# Altium schematic symbol library Schlib1.SchLib: 37 symbols (part 1 of 2)
Pins are listed as number, name and electrical type; pins without a type are passive.

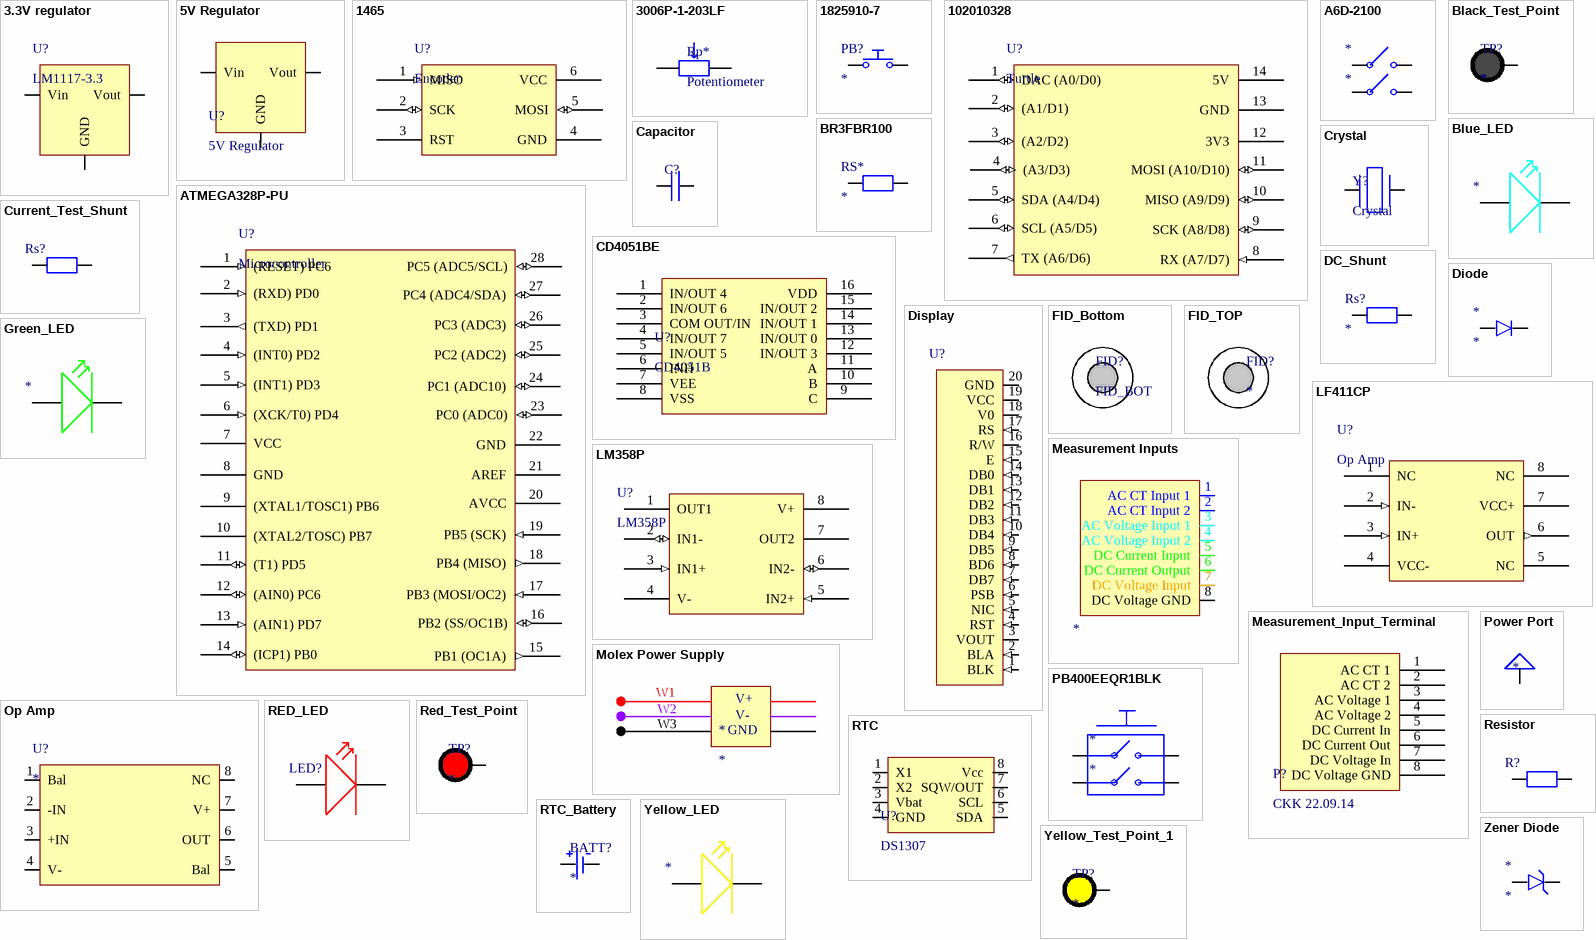
[diagram p0: symbols 3.3V regulator to Zener Diode]

## 3.3V regulator
designator U?, comment LM1117-3.3
footprint Voltge Regulator LM1117 (3.3)
pins: 1 Vin, 2 GND, 3 Vout

## 5V Regulator
designator U?
LM7805
footprint Voltge Regulator LM7805 (5)
pins: 1 Vin, 2 GND, 3 Vout

## 1465
designator U?, comment Encoder
Adafruit 6-Pin Avr Isp Breadboard Adapter Mini Kit |Adafruit 1465; Manufacturer: Adafruit Industries; Manufacturer Part Number: 1465; Supplier 1: DigiKey; RoHS: Compliant; Category: Uncategorized; Stock 1: 113; Pricing 1: 1=0.95 (USD); Schedule B: 8542900000, 8542900000|8542900000|8542900000|8542900000|8542900000; Supplier Part Number 1: 1528-1189-ND
footprint Encoder_No_Breakout
pins: 1 MISO (in), 2 SCK (io), 3 RST, 4 GND (power), 5 MOSI (io), 6 VCC (power)

## 3006P-1-203LF
designator Rp*, comment Potentiometer
Cermet trimmer potentiometer, 15 turns, 20 kΩ, 0.75 W, THT, lateral, 3006P-1-203LF; Manufacturer: Bourns; Lead Diameter: 510µm; Lead Length: 5.33mm; Max Power Dissipation: 750mW; Number of Turns: 15; Pitch: 2.5mm; Resistance: 20kΩ; Temperature Coefficient: 100ppm/°C; Tolerance: 10%; Voltage Rating: 400V; Supplier 1: DigiKey; Manufacturer Part Number: 3006P-1-203LF; RoHS: Compliant; Category: Variable Resistors and Potentiometers; Stock 1: 8166; Pricing 1: 1=1.78, 10=1.487, 25=1.3824, 50=1.3074, 100=1.2361, 250=1.14736, 500=1.0842, 1000=1.02432, 5000=0.89728 (USD); Color: Blue; Composition: Cermet; Contact Plating: Tin; Depth: 4.83mm; Height: 6.35mm; Length: 19.05mm; Lifecycle Status: Production; Max Operating Temperature: 125°C; Military Standard: Not; Min Operating Temperature: -55°C; Mount: PCB, Panel, Through Hole; Number of Terminals: 3; Power Dissipation: 750mW; Power Rating: 750mW; Radiation Hardening: No; REACH SVHC: No; Schedule B: 8533400080, 8533400080|8533400080|8533400080|8533400080|8533400080|8533400080|8533400080|8533400080|8533400080|8533400080|8533400080|8533400080|8533400080|8533400080|8533400080|8533400080|8533400080|8533400080|8533400080|8533400080|8533400080|8533400080|8533400080|85; Taper: Linear; Termination: Pin; Thickness: 5.59mm; Type: Potentiometer; Voltage Rating (DC): 400V; Weight: 1.133981g; Width: 4.83mm; Working Voltage: 400V; ComponentLink1URL: https://datasheet.octopart.com:443/3006P-1-203LF-Bourns-datasheet-179130280.pdf?src-supplier=IHS; ComponentLink1Description: https://datasheet.octopart.com:443/3006P-1-203LF-Bourns-datasheet-179130280.pdf?src-supplier=IHS; ComponentLink2URL: https://datasheet.octopart.com:443/3006P-1-203LF-Bourns-datasheet-1556.pdf?src-supplier=Master+Electronics; ComponentLink2Description: https://datasheet.octopart.com:443/3006P-1-203LF-Bourns-datasheet-1556.pdf?src-supplier=Master+Electronics; ComponentLink3URL: https://datasheet.octopart.com:443/3006P-1-203LF-Bourns-datasheet-8820935.pdf?src-supplier=Burklin+Elektronik; ComponentLink3Description: https://datasheet.octopart.com:443/3006P-1-203LF-Bourns-datasheet-8820935.pdf?src-supplier=Burklin+Elektronik; ComponentLink4URL: https://datasheet.octopart.com:443/3006P-1-203LF-Bourns-datasheet-177039006.pdf?src-supplier=Burklin+Elektronik; ComponentLink4Description: https://datasheet.octopart.com:443/3006P-1-203LF-Bourns-datasheet-177039006.pdf?src-supplier=Burklin+Elektronik; ComponentLink5URL: https://datasheet.octopart.com:443/3006P-1-203LF-Bourns-datasheet-25360148.pdf?src-supplier=Newark; ComponentLink5Description: https://datasheet.octopart.com:443/3006P-1-203LF-Bourns-datasheet-25360148.pdf?src-supplier=Newark; ComponentLink6URL: https://datasheet.octopart.com:443/3006P-1-203LF-Bourns-datasheet-147334278.pdf?src-supplier=Amar+Radio+Corporation; ComponentLink6Description: https://datasheet.octopart.com:443/3006P-1-203LF-Bourns-datasheet-147334278.pdf?src-supplier=Amar+Radio+Corporation; ComponentLink7URL: https://datasheet.octopart.com:443/3006P-1-203LF-Bourns-datasheet-37485062.pdf?src-supplier=RS+(Formerly+Allied+Electronics); ComponentLink7Description: https://datasheet.octopart.com:443/3006P-1-203LF-Bourns-datasheet-37485062.pdf?src-supplier=RS+(Formerly+Allied+Electronics); ComponentLink8URL: https://datasheet.octopart.com:443/3006P-1-203LF-Bourns-datasheet-30238.pdf?src-supplier=RS+(Formerly+Allied+Electronics); ComponentLink8Description: https://datasheet.octopart.com:443/3006P-1-203LF-Bourns-datasheet-30238.pdf?src-supplier=RS+(Formerly+Allied+Electronics); ComponentLink9URL: https://datasheet.octopart.com:443/3006P-1-203LF-Bourns-datasheet-14175265.pdf?src-supplier=iiiC; ComponentLink9Description: https://datasheet.octopart.com:443/3006P-1-203LF-Bourns-datasheet-14175265.pdf?src-supplier=iiiC; ComponentLink10URL: https://datasheet.octopart.com:443/3006P-1-203LF-Bourns-datasheet-8372838.pdf?src-supplier=Verical; ComponentLink10Description: https://datasheet.octopart.com:443/3006P-1-203LF-Bourns-datasheet-8372838.pdf?src-supplier=Verical; ComponentLink11URL: https://datasheet.octopart.com:443/3006P-1-203LF-Bourns-datasheet-10033440.pdf?src-supplier=Jameco; ComponentLink11Description: https://datasheet.octopart.com:443/3006P-1-203LF-Bourns-datasheet-10033440.pdf?src-supplier=Jameco; ComponentLink12URL: http://sigma.octopart.com:80/conflict_mineral_statement/Bourns-company-36.pdf?src-supplier=Compliance+Statements; ComponentLink12Description: http://sigma.octopart.com:80/conflict_mineral_statement/Bourns-company-36.pdf?src-supplier=Compliance+Statements; Supplier Part Number 1: 3006P-203LF-ND
footprint Potentiometer
pins: 1, 2

## 1825910-7
designator PB?
Keypad Switch, 1 Switches, SPST, Momentary, 0.05A, 24VDC, 2.548N, Solder Terminal, Panel Mount; Manufacturer: TE Connectivity; Manufacturer Part Number: 1825910-7; Manufacturer Lifecycle Status: ACTIVE; Actuator Length: 1.397mm; Actuator Material: PBT; Contact Current Rating: 50mA; Contact Resistance: 100mΩ; Electrical Life: 100kcycles; Illumination Type: Illuminated, Non-Illuminated; Max Voltage Rating (DC): 24V; Number of Positions: 1; Switch Function: Off-Mom; Switch Travel: 250µm; Supplier 1: DigiKey; RoHS: Compliant; Category: Pushbutton Switches; Stock 1: 35870; Pricing 1: 1=0.13, 10=0.118, 25=0.1112, 100=0.1001, 250=0.093, 750=0.08485, 1500=0.08009, 3000=0.07565, 5250=0.07234 (USD); China RoHS: Compliant; Color: Black, Red; Contact Material: Silver; Contact Plating: Silver; Current Rating: 50mA; Depth: 7.8mm; Export Control Classification Number (ECCN) Code: EAR99; ELV: Compliant; Height: 3.61mm; Housing Material: Nylon; Harmonized Tariff Schedule (HTS) Code: 8536.50.90.40; Introduction Date: 2008-01-30; Lead Free: Lead Free; Length: 5.99mm; Lifecycle Status: Production; Max Current Rating: 50mA; Max Operating Temperature: 85°C; Mechanical Life: 100kcycles; Min Operating Temperature: -35°C; Mount: Surface Mount, Through Hole; Operating Force: 2.548N; Orientation: Straight; Packaging: Bulk; Radiation Hardening: No; REACH SVHC: Yes; Schedule B: 8536509065, 8536509065|8536509065|8536509065|8536509065|8536509065|8536509065|8536509065|8536509065|8536509065|8536509065|8536509065|8536509065|8536509065|8536509065|8536509065|8536509065|8536509065|8536509065|8536509065|8536509065|8536509065|8536509065|8536509065|85; Termination: PC Pins, Solder; Throw Configuration: SPST; Type: Switch; Voltage Rating (DC): 24V; ComponentLink1URL: https://datasheet.octopart.com:443/1825910-7-TE-Connectivity-datasheet-179971976.pdf?src-supplier=IHS; ComponentLink1Description: https://datasheet.octopart.com:443/1825910-7-TE-Connectivity-datasheet-179971976.pdf?src-supplier=IHS; ComponentLink2URL: https://sigma.octopart.com:443/101748000/technical_drawing/TE-Connectivity-1825910-7.pdf?src-supplier=Sager+Electronics; ComponentLink2Description: https://sigma.octopart.com:443/101748000/technical_drawing/TE-Connectivity-1825910-7.pdf?src-supplier=Sager+Electronics; ComponentLink3URL: https://sigma.octopart.com:443/12291753/technical_drawing/TE-Connectivity-1825910-7.pdf?src-supplier=TE+Connectivity; ComponentLink3Description: https://sigma.octopart.com:443/12291753/technical_drawing/TE-Connectivity-1825910-7.pdf?src-supplier=TE+Connectivity; ComponentLink4URL: https://datasheet.octopart.com:443/1825910-7-TE-Connectivity-datasheet-10294628.pdf?src-supplier=Newark; ComponentLink4Description: https://datasheet.octopart.com:443/1825910-7-TE-Connectivity-datasheet-10294628.pdf?src-supplier=Newark; ComponentLink5URL: https://sigma.octopart.com:443/58177301/technical_drawing/TE-Connectivity-1825910-7.pdf?src-supplier=Farnell; ComponentLink5Description: https://sigma.octopart.com:443/58177301/technical_drawing/TE-Connectivity-1825910-7.pdf?src-supplier=Farnell; ComponentLink6URL: https://datasheet.octopart.com:443/1825910-7-TE-Connectivity---Alcoswitch-datasheet-33021037.pdf?src-supplier=Farnell; ComponentLink6Description: https://datasheet.octopart.com:443/1825910-7-TE-Connectivity---Alcoswitch-datasheet-33021037.pdf?src-supplier=Farnell; ComponentLink7URL: https://datasheet.octopart.com:443/1825910-7-TE-Connectivity---AMP-datasheet-23715109.pdf?src-supplier=Electro+Sonic; ComponentLink7Description: https://datasheet.octopart.com:443/1825910-7-TE-Connectivity---AMP-datasheet-23715109.pdf?src-supplier=Electro+Sonic; ComponentLink8URL: https://datasheet.octopart.com:443/1825910-7-TE-Connectivity-datasheet-145419879.pdf?src-supplier=RS+(Formerly+Allied+Electronics); ComponentLink8Description: https://datasheet.octopart.com:443/1825910-7-TE-Connectivity-datasheet-145419879.pdf?src-supplier=RS+(Formerly+Allied+Electronics); ComponentLink9URL: https://datasheet.octopart.com:443/1825910-7-TE-Connectivity---AMP-datasheet-189108451.pdf?src-supplier=Master+Electronics; ComponentLink9Description: https://datasheet.octopart.com:443/1825910-7-TE-Connectivity---AMP-datasheet-189108451.pdf?src-supplier=Master+Electronics; ComponentLink10URL: http://sigma.octopart.com:80/14574254/rohs_statement/TE-Connectivity-1825910-7.pdf?src-supplier=Compliance+Statements; ComponentLink10Description: http://sigma.octopart.com:80/14574254/rohs_statement/TE-Connectivity-1825910-7.pdf?src-supplier=Compliance+Statements; ComponentLink11URL: http://sigma.octopart.com:80/41598134/materials_sheet/TE-Connectivity-1825910-7.pdf?src-supplier=Compliance+Statements; ComponentLink11Description: http://sigma.octopart.com:80/41598134/materials_sheet/TE-Connectivity-1825910-7.pdf?src-supplier=Compliance+Statements; Supplier Part Number 1: 450-1804-ND
footprint Pushbutton
pins: 1, 2

## 102010328
designator U?, comment Turtle
SAMD21 Microcontroller Development Board 0.0327MHz/48MHzCPU 32KB RAM 256KB Flash; Manufacturer: Seeed Studio; Manufacturer Part Number: 102010328; Supplier 1: DigiKey; Category: DSPs - Digital Signal Processors; Stock 1: 4270; Pricing 1: 1=5.4 (USD); Schedule B: 8471490000; Supplier Part Number 1: 1597-102010328-ND
footprint Polygot-Turtle
pins: 1 DAC (A0/D0) (io), 2 (A1/D1) (io), 3 (A2/D2) (io), 4 (A3/D3) (io), 5 SDA (A4/D4) (io), 6 SCL (A5/D5) (io), 7 TX (A6/D6) (out), 8 RX (A7/D7) (in), 9 SCK (A8/D8) (io), 10 MISO (A9/D9) (io), 11 MOSI (A10/D10) (io), 12 3V3 (power), 13 GND (power), 14 5V (power)

## A6D-2100
designator *
Switch DIP ON OFF SPST 2 Flush Slide 0.1A 30VDC PC Pins 5000Cycle 2.54mm Thru-Hole Tube; Manufacturer: Omron; Manufacturer Part Number: A6D-2100; Actuator Length: 0m; Contact Current Rating: 100mA; Contact Resistance: 100mΩ; Current Rating: 30mA; Electrical Life: 2kcycles; Max Voltage Rating (DC): 30V; Mechanical Life: 5kcycles; Number of Circuits: 2; Sealable: IP64; Throw Configuration: DPST; Washable: Yes; Supplier 1: DigiKey; RoHS: Compliant; Category: DIP Switches; Pricing 1: 1=4.34, 10=3.625, 73=3.07205, 146=2.90377, 292=2.75, 511=2.63677, 1022=2.50991, 2555=2.36407 (USD); Ambient Temperature Range High: 70°C; Case/Package: DIP; Contact Plating: Gold; Depth: 7.62mm; Height: 3.4mm; Insulation Resistance: 100MΩ; Lead Free: Lead Free; Length: 6.6mm; Life (Cycles): 2kcycles; Lifecycle Status: Production; Max Current Rating: 30mA; Max Operating Temperature: 70°C; Min Operating Temperature: -20°C; Mount: PCB, Through Hole; Number of Poles: 2; Number of Positions: 2; Pitch: 2.54mm; Radiation Hardening: No; REACH SVHC: Yes; Terminal Pitch: 2.54mm; Termination: PC Pins; Voltage Rating (DC): 30V; ComponentLink1URL: https://datasheet.octopart.com:443/A6D-2100-Omron-datasheet-87796457.pdf?src-supplier=Master+Electronics; ComponentLink1Description: https://datasheet.octopart.com:443/A6D-2100-Omron-datasheet-87796457.pdf?src-supplier=Master+Electronics; ComponentLink2URL: https://datasheet.octopart.com:443/A6D-2100-Omron-datasheet-21210518.pdf?src-supplier=Newark; ComponentLink2Description: https://datasheet.octopart.com:443/A6D-2100-Omron-datasheet-21210518.pdf?src-supplier=Newark; ComponentLink3URL: https://datasheet.octopart.com:443/A6D-2100-Omron-datasheet-134074.pdf?src-supplier=Factory+Futures; ComponentLink3Description: https://datasheet.octopart.com:443/A6D-2100-Omron-datasheet-134074.pdf?src-supplier=Factory+Futures; ComponentLink4URL: https://datasheet.octopart.com:443/A6D-2100-Omron-datasheet-62106897.pdf?src-supplier=Electro+Sonic; ComponentLink4Description: https://datasheet.octopart.com:443/A6D-2100-Omron-datasheet-62106897.pdf?src-supplier=Electro+Sonic; ComponentLink5URL: https://datasheet.octopart.com:443/A6D-2100-Omron-datasheet-10025613.pdf?src-supplier=Farnell; ComponentLink5Description: https://datasheet.octopart.com:443/A6D-2100-Omron-datasheet-10025613.pdf?src-supplier=Farnell; ComponentLink6URL: https://datasheet.octopart.com:443/A6D-2100-Omron-datasheet-650778.pdf?src-supplier=Farnell; ComponentLink6Description: https://datasheet.octopart.com:443/A6D-2100-Omron-datasheet-650778.pdf?src-supplier=Farnell; ComponentLink7URL: https://datasheet.octopart.com:443/A6D-2100-Omron-datasheet-9667477.pdf?src-supplier=RS+(Formerly+Allied+Electronics); ComponentLink7Description: https://datasheet.octopart.com:443/A6D-2100-Omron-datasheet-9667477.pdf?src-supplier=RS+(Formerly+Allied+Electronics); ComponentLink8URL: https://datasheet.octopart.com:443/A6D-2100-Omron-datasheet-110376.pdf?src-supplier=TME; ComponentLink8Description: https://datasheet.octopart.com:443/A6D-2100-Omron-datasheet-110376.pdf?src-supplier=TME; Supplier Part Number 1: SW896-ND
pins: 1, 1, 2, 2

## ATMEGA328P-PU
designator U?, comment Microcontroller
Microchip - ATMEGA328P-PU - Microcontroller Mcu, 8 Bit, Atmega, 20MHZ, DIP-28; Manufacturer Lifecycle Status: REL; Core Architecture: AVR; Data Bus Width: 8b; Interface: 2-Wire, I2C, SPI, UART, USART; Max Supply Voltage: 5.5V; Memory Size: 32kB; Memory Type: FLASH; Min Supply Voltage: 1.8V; Number of ADC Channels: 6; Number of I2C Channels: 1; Number of I/Os: 23; Number of Timers/Counters: 3; Oscillator Type: Internal; Peripherals: Brown-out Detect/Reset, POR, PWM, WDT; RAM Size: 2kB; Watchdog Timer: Yes; Supplier 1: DigiKey; Manufacturer: Microchip; Manufacturer Part Number: ATMEGA328P-PU; RoHS: Compliant; Category: Microcontrollers; Stock 1: 49916; Pricing 1: 1=2.89, 25=2.65, 100=2.39 (USD); Projected EOL Date: 2039-11-04; Case/Package: PDIP; Contact Plating: Tin; Country of Assembly: Thailand; Country of Fabrication: United States of America; Country of Origin: Thailand; Export Control Classification Number (ECCN) Code: EAR99; Frequency: 20MHz; Height: 3.28mm; Harmonized Tariff Schedule (HTS) Code: 8542.31.0015; Lead Free: Lead Free; Length: 37.4mm; Lifecycle Status: Production; Max Frequency: 20MHz; Max Operating Temperature: 85°C; Min Operating Temperature: -40°C; Mount: Through Hole; Number of Pins: 28; Number of Programmable I/O: 23; Number of PWM Channels: 6; Number of SPI Channels: 1; Radiation Hardening: No; REACH SVHC: No; Schedule B: 8542310000, 8542310000|8542310000|8542310000|8542310000|8542310000; Width: 6.76mm; ComponentLink1URL: https://datasheet.octopart.com:443/ATMEGA328P-PU-Microchip-datasheet-147334532.pdf?src-supplier=Microchip; ComponentLink1Description: https://datasheet.octopart.com:443/ATMEGA328P-PU-Microchip-datasheet-147334532.pdf?src-supplier=Microchip; ComponentLink2URL: https://datasheet.octopart.com:443/ATMEGA328P-PU-Microchip-datasheet-148646239.pdf?src-supplier=Microchip; ComponentLink2Description: https://datasheet.octopart.com:443/ATMEGA328P-PU-Microchip-datasheet-148646239.pdf?src-supplier=Microchip; ComponentLink3URL: https://datasheet.octopart.com:443/ATMEGA328P-PU-Microchip-datasheet-68295846.pdf?src-supplier=SHENGYU+ELECTRONICS; ComponentLink3Description: https://datasheet.octopart.com:443/ATMEGA328P-PU-Microchip-datasheet-68295846.pdf?src-supplier=SHENGYU+ELECTRONICS; ComponentLink4URL: https://datasheet.octopart.com:443/ATMEGA328P-PU-Microchip-datasheet-14421303.pdf?src-supplier=Upverter; ComponentLink4Description: https://datasheet.octopart.com:443/ATMEGA328P-PU-Microchip-datasheet-14421303.pdf?src-supplier=Upverter; ComponentLink5URL: https://datasheet.octopart.com:443/ATMEGA328P-PU-Atmel-datasheet-34147914.pdf?src-supplier=Upverter; ComponentLink5Description: https://datasheet.octopart.com:443/ATMEGA328P-PU-Atmel-datasheet-34147914.pdf?src-supplier=Upverter; ComponentLink6URL: https://datasheet.octopart.com:443/ATMEGA328P-PU-Atmel-datasheet-14353408.pdf?src-supplier=Upverter; ComponentLink6Description: https://datasheet.octopart.com:443/ATMEGA328P-PU-Atmel-datasheet-14353408.pdf?src-supplier=Upverter; ComponentLink7URL: https://datasheet.octopart.com:443/ATMEGA328P-PU-Microchip-datasheet-133520744.pdf?src-supplier=LKR; ComponentLink7Description: https://datasheet.octopart.com:443/ATMEGA328P-PU-Microchip-datasheet-133520744.pdf?src-supplier=LKR; ComponentLink8URL: https://datasheet.octopart.com:443/ATMEGA328P-PU-Microchip-datasheet-62316222.pdf?src-supplier=element14+APAC; ComponentLink8Description: https://datasheet.octopart.com:443/ATMEGA328P-PU-Microchip-datasheet-62316222.pdf?src-supplier=element14+APAC; ComponentLink9URL: https://datasheet.octopart.com:443/ATMEGA328P-PU-Atmel-datasheet-13381135.pdf?src-supplier=element14+APAC; ComponentLink9Description: https://datasheet.octopart.com:443/ATMEGA328P-PU-Atmel-datasheet-13381135.pdf?src-supplier=element14+APAC; ComponentLink10URL: https://datasheet.octopart.com:443/ATMEGA328P-PU-Microchip-datasheet-154741723.pdf?src-supplier=Electro+Sonic; ComponentLink10Description: https://datasheet.octopart.com:443/ATMEGA328P-PU-Microchip-datasheet-154741723.pdf?src-supplier=Electro+Sonic; ComponentLink11URL: https://datasheet.octopart.com:443/ATMEGA328P-PU-Microchip-datasheet-100453898.pdf?src-supplier=Burklin+Elektronik; ComponentLink11Description: https://datasheet.octopart.com:443/ATMEGA328P-PU-Microchip-datasheet-100453898.pdf?src-supplier=Burklin+Elektronik; ComponentLink12URL: https://datasheet.octopart.com:443/ATMEGA328P-PU-Atmel-datasheet-30457899.pdf?src-supplier=Seeed+Studio; ComponentLink12Description: https://datasheet.octopart.com:443/ATMEGA328P-PU-Atmel-datasheet-30457899.pdf?src-supplier=Seeed+Studio; ComponentLink13URL: https://datasheet.octopart.com:443/ATMEGA328P-PU-Microchip-datasheet-10842036.pdf?src-supplier=SOS+electronic; ComponentLink13Description: https://datasheet.octopart.com:443/ATMEGA328P-PU-Microchip-datasheet-10842036.pdf?src-supplier=SOS+electronic; ComponentLink14URL: https://datasheet.octopart.com:443/ATMEGA328P-PU-Microchip-datasheet-8364063.pdf?src-supplier=Jameco; ComponentLink14Description: https://datasheet.octopart.com:443/ATMEGA328P-PU-Microchip-datasheet-8364063.pdf?src-supplier=Jameco; ComponentLink15URL: https://datasheet.octopart.com:443/ATMEGA328P-PU-Microchip-datasheet-154323124.pdf?src-supplier=Jameco; ComponentLink15Description: https://datasheet.octopart.com:443/ATMEGA328P-PU-Microchip-datasheet-154323124.pdf?src-supplier=Jameco; ComponentLink16URL: https://datasheet.octopart.com:443/ATMEGA328P-PU-Atmel-datasheet-10389530.pdf?src-supplier=Newark; ComponentLink16Description: https://datasheet.octopart.com:443/ATMEGA328P-PU-Atmel-datasheet-10389530.pdf?src-supplier=Newark; ComponentLink17URL: https://datasheet.octopart.com:443/ATMEGA328P-PU-Microchip-datasheet-65729177.pdf?src-supplier=TME; ComponentLink17Description: https://datasheet.octopart.com:443/ATMEGA328P-PU-Microchip-datasheet-65729177.pdf?src-supplier=TME; ComponentLink18URL: https://datasheet.octopart.com:443/ATMEGA328P-PU-Microchip-datasheet-101746195.pdf?src-supplier=Future+Electronics; ComponentLink18Description: https://datasheet.octopart.com:443/ATMEGA328P-PU-Microchip-datasheet-101746195.pdf?src-supplier=Future+Electronics; ComponentLink19URL: http://sigma.octopart.com:80/188450569/materials_sheet/Microchip-ATMEGA328P-PU.pdf?src-supplier=Compliance+Statements; ComponentLink19Description: http://sigma.octopart.com:80/188450569/materials_sheet/Microchip-ATMEGA328P-PU.pdf?src-supplier=Compliance+Statements; ComponentLink20URL: http://sigma.octopart.com:80/rohs_statement/Microchip-company-71.pdf?src-supplier=Compliance+Statements; ComponentLink20Description: http://sigma.octopart.com:80/rohs_statement/Microchip-company-71.pdf?src-supplier=Compliance+Statements; ComponentLink21URL: http://sigma.octopart.com:80/reach_statement/Microchip-company-70.pdf?src-supplier=Compliance+Statements; ComponentLink21Description: http://sigma.octopart.com:80/reach_statement/Microchip-company-70.pdf?src-supplier=Compliance+Statements; ComponentLink22URL: http://sigma.octopart.com:80/conflict_mineral_statement/Microchip-company-69.pdf?src-supplier=Compliance+Statements; ComponentLink22Description: http://sigma.octopart.com:80/conflict_mineral_statement/Microchip-company-69.pdf?src-supplier=Compliance+Statements; ComponentLink23URL: http://sigma.octopart.com:80/conflict_mineral_statement/Microchip-company-68.pdf?src-supplier=Compliance+Statements; ComponentLink23Description: http://sigma.octopart.com:80/conflict_mineral_statement/Microchip-company-68.pdf?src-supplier=Compliance+Statements; ComponentLink24URL: http://sigma.octopart.com:80/reach_statement/Atmel-company-6.pdf?src-supplier=Compliance+Statements; ComponentLink24Description: http://sigma.octopart.com:80/reach_statement/Atmel-company-6.pdf?src-supplier=Compliance+Statements; ComponentLink25URL: http://sigma.octopart.com:80/rohs_statement/Atmel-company-5.pdf?src-supplier=Compliance+Statements; ComponentLink25Description: http://sigma.octopart.com:80/rohs_statement/Atmel-company-5.pdf?src-supplier=Compliance+Statements; ComponentLink26URL: http://sigma.octopart.com:80/rohs_statement/Atmel-company-4.pdf?src-supplier=Compliance+Statements; ComponentLink26Description: http://sigma.octopart.com:80/rohs_statement/Atmel-company-4.pdf?src-supplier=Compliance+Statements; Supplier Part Number 1: ATMEGA328P-PU-ND
footprint ATMEGA832P\
pins: 1 (RESET) PC6 (in), 2 (RXD) PD0 (in), 3 (TXD) PD1 (out), 4 (INT0) PD2 (in), 5 (INT1) PD3 (in), 6 (XCK/T0) PD4 (in), 7 VCC (power), 8 GND (power), 9 (XTAL1/TOSC1) PB6, 10 (XTAL2/TOSC) PB7, 11 (T1) PD5 (io), 12 (AIN0) PC6 (io), 13 (AIN1) PD7 (in), 14 (ICP1) PB0 (io), 15 PB1 (OC1A) (out), 16 PB2 (SS/OC1B) (io), 17 PB3 (MOSI/OC2) (in), 18 PB4 (MISO) (out), 19 PB5 (SCK) (in), 20 AVCC (power), 21 AREF, 22 GND (power), 23 PC0 (ADC0) (io), 24 PC1 (ADC10) (io), 25 PC2 (ADC2) (io), 26 PC3 (ADC3) (io), 27 PC4 (ADC4/SDA) (io), 28 PC5 (ADC5/SCL) (io)

## Black_Test_Point
designator TP?
footprint TP
pins: 1

## Blue_LED
designator *  (value not drawn)
pins: 1, 2

## BR3FBR100
designator RS*
BR FIXED RESISTOR Radial Through Hole Resistor ±1% ±20ppm/C 100mOhm 3W; Manufacturer: Stackpole Electronics; Manufacturer Part Number: BR3FBR100; Lead Diameter: 1.02mm; Lead Length: 3.18mm; Resistance: 100mΩ; Temperature Coefficient: 20ppm/°C; Supplier 1: DigiKey; RoHS: Compliant; Category: Through-Hole Resistors; Stock 1: 835; Pricing 1: 1=1.26, 10=0.826, 25=0.708, 50=0.634, 100=0.571, 300=0.4898, 500=0.4586, 1000=0.42184, 5000=0.35642 (USD); Case/Package: Radial; Composition: Metal Element; Contact Plating: Tin; Country of Origin: Mexico; Export Control Classification Number (ECCN) Code: EAR99; Height: 20.32mm; Harmonized Tariff Schedule (HTS) Code: 8533.21.00.80; Introduction Date: 2011-10-27; Length: 15.3mm; Lifecycle Status: Production; Max Operating Temperature: 350°C; Max Power Dissipation: 3W; Min Operating Temperature: -65°C; Mount: Through Hole; Number of Terminals: 2; Number of Terminations: 2; Packaging: Bulk; Power Rating: 3W; REACH SVHC: Yes; Tolerance: 1%; ComponentLink1URL: https://datasheet.octopart.com:443/BR3FBR100-Stackpole-Electronics-datasheet-168158999.pdf?src-supplier=IHS; ComponentLink1Description: https://datasheet.octopart.com:443/BR3FBR100-Stackpole-Electronics-datasheet-168158999.pdf?src-supplier=IHS; ComponentLink2URL: https://datasheet.octopart.com:443/BR3FBR100-Stackpole-Electronics-datasheet-141158215.pdf?src-supplier=Master+Electronics; ComponentLink2Description: https://datasheet.octopart.com:443/BR3FBR100-Stackpole-Electronics-datasheet-141158215.pdf?src-supplier=Master+Electronics; ComponentLink3URL: https://datasheet.octopart.com:443/BR3FBR100-Stackpole-Electronics-datasheet-152735256.pdf?src-supplier=Future+Electronics; ComponentLink3Description: https://datasheet.octopart.com:443/BR3FBR100-Stackpole-Electronics-datasheet-152735256.pdf?src-supplier=Future+Electronics; ComponentLink4URL: http://sigma.octopart.com:80/141158211/reach_statement/Stackpole-Electronics-BR3FBR100.pdf?src-supplier=Compliance+Statements; ComponentLink4Description: http://sigma.octopart.com:80/141158211/reach_statement/Stackpole-Electronics-BR3FBR100.pdf?src-supplier=Compliance+Statements; ComponentLink5URL: http://sigma.octopart.com:80/141158212/rohs_statement/Stackpole-Electronics-BR3FBR100.pdf?src-supplier=Compliance+Statements; ComponentLink5Description: http://sigma.octopart.com:80/141158212/rohs_statement/Stackpole-Electronics-BR3FBR100.pdf?src-supplier=Compliance+Statements; Width: 1.651mm; Supplier Part Number 1: BR3FBR100-ND
pins: 1, 2

## Capacitor
designator C?  (value not drawn)
footprint Capacitor
pins: 1, 2

## CD4051BE
designator U?, comment CD4051B
CD4051B Series 20 V 100 nA CMOS Single 8-Channel Analog Multiplexer - PDIP-16; Manufacturer: Texas Instruments; Manufacturer Part Number: CD4051BE; Manufacturer Lifecycle Status: ACTIVE; Bandwidth: 20MHz; Drain to Source Resistance: 240Ω; Dual Supply Voltage: 3V; Logic Function: Demultiplexer, Multiplexer, Mux; Max Dual Supply Voltage: 9V; Max Supply Voltage: 20V; Min Dual Supply Voltage: 2.5V; Nominal Supply Current: 80nA; Number of Bits: 8; Number of Circuits: 1; Operating Supply Voltage: 18V; Polarity: Non-Inverting; Propagation Delay: 60ns; Supply Type: Dual, Single; Turn-Off Delay Time: 450ns; Turn-On Delay Time: 720ns; Supplier 1: DigiKey; RoHS: Compliant; Category: Analog Switches and Multiplexers; Stock 1: 4495; Pricing 1: 1=0.8, 10=0.568, 25=0.5108, 100=0.4479, 250=0.41796, 500=0.3999, 1000=0.38504, 2500=0.36936, 5000=0.35991 (USD); Case/Package: PDIP; Contact Plating: Tin; Height: 5.08mm; Lead Free: Lead Free; Length: 19.3mm; Lifecycle Status: Production; Max Operating Temperature: 125°C; Min Operating Temperature: -55°C; Min Supply Voltage: 3V; Min Supply Voltage (DC): 3V; Mount: Through Hole; Number of Channels: 8; Number of Gates: 1; Number of Inputs: 8; Number of Pins: 16; Operating Supply Current: 80nA; Quiescent Current: 80nA; Radiation Hardening: No; REACH SVHC: No; Resistance: 240Ω; Schedule B: 8542390000, 8542390000|8542390000|8542390000|8542390000|8542390000|8542390000|8542390000|8542390000|8542390000|8542390000|8542390000|8542390000|8542390000|8542390000|8542390000|8542390000|8542390000|8542390000|8542390000|8542390000|8542390000|8542390000|8542390000|85; Thickness: 3.9mm; Weight: 951.693491mg; Width: 6.35mm; ComponentLink1URL: https://datasheet.octopart.com:443/CD4051BE-Texas-Instruments-datasheet-41214435.pdf?src-supplier=Texas+Instruments; ComponentLink1Description: https://datasheet.octopart.com:443/CD4051BE-Texas-Instruments-datasheet-41214435.pdf?src-supplier=Texas+Instruments; ComponentLink2URL: https://octopart.com:443/opatz8j6/c1?t=UIfRW14eXhIfOF-oFZ6Q5J66j7PnUsDjt-DLRZv_ne4_WiumMkbXx4rniWKDRQWco0c1A10nEU92iBnjKMIo5KjEBL51Ak-2lkuqMbbpcID5g9fRMoz5DgekRImzSQik1OPk2t9RJpeedauIwahmVtI3gTHC42d6XSj0Uau-qhabpl_wXRd-29TaXMBJ7wO7fIz0V_HzD_C70tPsu40Tn1cil4nKPp6cB3GfDvcANLGUEQXsGt6YWVv3-ioL5EzUk8hYm1ZisYe4m3mFIzjPX1C895qkWPqY_VotFC2s6MaYWvoNxagzj2oPdc8hXeyaNzAy6VkZktOcbdmdhbAVYym2grw-0VwWrIK_rtRIbd5hGGQdgoqSEIJ3mXl6Yi3iSw&src-supplier=Texas+Instruments; ComponentLink2Description: https://octopart.com:443/opatz8j6/c1?t=UIfRW14eXhIfOF-oFZ6Q5J66j7PnUsDjt-DLRZv_ne4_WiumMkbXx4rniWKDRQWco0c1A10nEU92iBnjKMIo5KjEBL51Ak-2lkuqMbbpcID5g9fRMoz5DgekRImzSQik1OPk2t9RJpeedauIwahmVtI3gTHC42d6XSj0Uau-qhabpl_wXRd-29TaXMBJ7wO7fIz0V_HzD_C70tPsu40Tn1cil4nKPp6cB3GfDvcANLGUEQXsGt6YWVv3-ioL5EzUk8hYm1ZisYe4m3mFIzjPX1C895qkWPqY_VotFC2s6MaYWvoNxagzj2oPdc8hXeyaNzAy6VkZktOcbdmdhbAVYym2grw-0VwWrIK_rtRIbd5hGGQdgoqSEIJ3mXl6Yi3iSw&src-supplier=Texas+Instruments; ComponentLink3URL: https://datasheet.octopart.com:443/CD4051BE-Texas-Instruments-datasheet-148785.pdf?src-supplier=Texas+Instruments; ComponentLink3Description: https://datasheet.octopart.com:443/CD4051BE-Texas-Instruments-datasheet-148785.pdf?src-supplier=Texas+Instruments; ComponentLink4URL: https://sigma.octopart.com:443/49249812/technical_drawing/Texas-Instruments-CD4051BE.pdf?src-supplier=Texas+Instruments; ComponentLink4Description: https://sigma.octopart.com:443/49249812/technical_drawing/Texas-Instruments-CD4051BE.pdf?src-supplier=Texas+Instruments; ComponentLink5URL: https://datasheet.octopart.com:443/CD4051BE-Texas-Instruments-datasheet-10253597.pdf?src-supplier=Farnell; ComponentLink5Description: https://datasheet.octopart.com:443/CD4051BE-Texas-Instruments-datasheet-10253597.pdf?src-supplier=Farnell; ComponentLink6URL: https://datasheet.octopart.com:443/CD4051BE-Texas-Instruments-datasheet-62345999.pdf?src-supplier=Farnell; ComponentLink6Description: https://datasheet.octopart.com:443/CD4051BE-Texas-Instruments-datasheet-62345999.pdf?src-supplier=Farnell; ComponentLink7URL: https://datasheet.octopart.com:443/CD4051BE-Texas-Instruments-datasheet-8384997.pdf?src-supplier=Farnell; ComponentLink7Description: https://datasheet.octopart.com:443/CD4051BE-Texas-Instruments-datasheet-8384997.pdf?src-supplier=Farnell; ComponentLink8URL: https://datasheet.octopart.com:443/CD4051BE-Texas-Instruments-datasheet-10694235.pdf?src-supplier=Farnell; ComponentLink8Description: https://datasheet.octopart.com:443/CD4051BE-Texas-Instruments-datasheet-10694235.pdf?src-supplier=Farnell; ComponentLink9URL: https://datasheet.octopart.com:443/CD4051BE-Texas-Instruments-datasheet-10411452.pdf?src-supplier=Farnell; ComponentLink9Description: https://datasheet.octopart.com:443/CD4051BE-Texas-Instruments-datasheet-10411452.pdf?src-supplier=Farnell; ComponentLink10URL: https://datasheet.octopart.com:443/CD4051BE-Texas-Instruments-datasheet-10189767.pdf?src-supplier=Farnell; ComponentLink10Description: https://datasheet.octopart.com:443/CD4051BE-Texas-Instruments-datasheet-10189767.pdf?src-supplier=Farnell; ComponentLink11URL: https://datasheet.octopart.com:443/CD4051BE-Texas-Instruments-datasheet-8763554.pdf?src-supplier=Farnell; ComponentLink11Description: https://datasheet.octopart.com:443/CD4051BE-Texas-Instruments-datasheet-8763554.pdf?src-supplier=Farnell; ComponentLink12URL: https://datasheet.octopart.com:443/CD4051BE-Texas-Instruments-datasheet-5330332.pdf?src-supplier=Farnell; ComponentLink12Description: https://datasheet.octopart.com:443/CD4051BE-Texas-Instruments-datasheet-5330332.pdf?src-supplier=Farnell; ComponentLink13URL: https://datasheet.octopart.com:443/CD4051BE-Texas-Instruments-datasheet-5364360.pdf?src-supplier=Farnell; ComponentLink13Description: https://datasheet.octopart.com:443/CD4051BE-Texas-Instruments-datasheet-5364360.pdf?src-supplier=Farnell; ComponentLink14URL: https://datasheet.octopart.com:443/CD4051BE-Texas-Instruments-datasheet-17021337.pdf?src-supplier=Future+Electronics; ComponentLink14Description: https://datasheet.octopart.com:443/CD4051BE-Texas-Instruments-datasheet-17021337.pdf?src-supplier=Future+Electronics; ComponentLink15URL: https://datasheet.octopart.com:443/CD4051BE-Texas-Instruments-datasheet-42768.pdf?src-supplier=Mouser; ComponentLink15Description: https://datasheet.octopart.com:443/CD4051BE-Texas-Instruments-datasheet-42768.pdf?src-supplier=Mouser; ComponentLink16URL: https://datasheet.octopart.com:443/CD4051BE-Texas-Instruments-datasheet-159114769.pdf?src-supplier=Burklin+Elektronik; ComponentLink16Description: https://datasheet.octopart.com:443/CD4051BE-Texas-Instruments-datasheet-159114769.pdf?src-supplier=Burklin+Elektronik; ComponentLink17URL: https://datasheet.octopart.com:443/CD4051BE-Texas-Instruments-datasheet-47642707.pdf?src-supplier=TME; ComponentLink17Description: https://datasheet.octopart.com:443/CD4051BE-Texas-Instruments-datasheet-47642707.pdf?src-supplier=TME; ComponentLink18URL: https://datasheet.octopart.com:443/CD4051BE-Texas-Instruments-datasheet-163810140.pdf?src-supplier=SHENGYU+ELECTRONICS; ComponentLink18Description: https://datasheet.octopart.com:443/CD4051BE-Texas-Instruments-datasheet-163810140.pdf?src-supplier=SHENGYU+ELECTRONICS; ComponentLink19URL: https://datasheet.octopart.com:443/CD4051BE-Texas-Instruments-datasheet-163656050.pdf?src-supplier=LCSC; ComponentLink19Description: https://datasheet.octopart.com:443/CD4051BE-Texas-Instruments-datasheet-163656050.pdf?src-supplier=LCSC; ComponentLink20URL: https://datasheet.octopart.com:443/CD4051BE-Texas-Instruments-datasheet-37129006.pdf?src-supplier=Newark; ComponentLink20Description: https://datasheet.octopart.com:443/CD4051BE-Texas-Instruments-datasheet-37129006.pdf?src-supplier=Newark; ComponentLink21URL: https://datasheet.octopart.com:443/CD4051BE-Texas-Instruments-datasheet-21220570.pdf?src-supplier=Newark; ComponentLink21Description: https://datasheet.octopart.com:443/CD4051BE-Texas-Instruments-datasheet-21220570.pdf?src-supplier=Newark; ComponentLink22URL: https://datasheet.octopart.com:443/CD4051BE-Texas-Instruments-datasheet-32026515.pdf?src-supplier=element14+APAC; ComponentLink22Description: https://datasheet.octopart.com:443/CD4051BE-Texas-Instruments-datasheet-32026515.pdf?src-supplier=element14+APAC; ComponentLink23URL: https://datasheet.octopart.com:443/CD4051BE-Texas-Instruments-datasheet-14119637.pdf?src-supplier=iiiC; ComponentLink23Description: https://datasheet.octopart.com:443/CD4051BE-Texas-Instruments-datasheet-14119637.pdf?src-supplier=iiiC; ComponentLink24URL: https://datasheet.octopart.com:443/CD4051BE-Texas-Instruments-datasheet-10104488.pdf?src-supplier=element14; ComponentLink24Description: https://datasheet.octopart.com:443/CD4051BE-Texas-Instruments-datasheet-10104488.pdf?src-supplier=element14; ComponentLink25URL: https://datasheet.octopart.com:443/CD4051BE-Texas-Instruments-datasheet-10059866.pdf?src-supplier=element14; ComponentLink25Description: https://datasheet.octopart.com:443/CD4051BE-Texas-Instruments-datasheet-10059866.pdf?src-supplier=element14; ComponentLink26URL: https://datasheet.octopart.com:443/CD4051BE-Texas-Instruments-datasheet-7280354.pdf?src-supplier=Jameco; ComponentLink26Description: https://datasheet.octopart.com:443/CD4051BE-Texas-Instruments-datasheet-7280354.pdf?src-supplier=Jameco; ComponentLink27URL: https://datasheet.octopart.com:443/CD4051BE-Texas-Instruments-datasheet-38186.pdf?src-supplier=RS+(Formerly+Allied+Electronics); ComponentLink27Description: https://datasheet.octopart.com:443/CD4051BE-Texas-Instruments-datasheet-38186.pdf?src-supplier=RS+(Formerly+Allied+Electronics); ComponentLink28URL: https://datasheet.octopart.com:443/CD4051BE-Texas-Instruments-datasheet-115798.pdf?src-supplier=Sierra+IC; ComponentLink28Description: https://datasheet.octopart.com:443/CD4051BE-Texas-Instruments-datasheet-115798.pdf?src-supplier=Sierra+IC; ComponentLink29URL: http://sigma.octopart.com:80/reach_statement/Texas-Instruments-company-64.pdf?src-supplier=Compliance+Statements; ComponentLink29Description: http://sigma.octopart.com:80/reach_statement/Texas-Instruments-company-64.pdf?src-supplier=Compliance+Statements; ComponentLink30URL: http://sigma.octopart.com:80/conflict_mineral_statement/Texas-Instruments-company-63.pdf?src-supplier=Compliance+Statements; ComponentLink30Description: http://sigma.octopart.com:80/conflict_mineral_statement/Texas-Instruments-company-63.pdf?src-supplier=Compliance+Statements; Supplier Part Number 1: 296-2057-5-ND
footprint Multiplexor
pins: 1 IN/OUT 4, 2 IN/OUT 6, 3 COM OUT/IN, 4 IN/OUT 7, 5 IN/OUT 5, 6 INH, 7 VEE, 8 VSS, 9 C, 10 B, 11 A, 12 IN/OUT 3, 13 IN/OUT 0, 14 IN/OUT 1, 15 IN/OUT 2, 16 VDD

## Crystal
designator Y?
footprint Crystal
pins: 1, 2

## Current_Test_Shunt
designator Rs?
Current_Shunt
footprint Current_Shunt
pins: 1, 2

## DC_Shunt
designator Rs?
DC_Shunt
footprint DC_Shunt
pins: 1, 2

## Diode
designator *
footprint Diode
pins: 1, 2

## Display
designator U?, comment LED Display  (value not drawn)
footprint LED Display
pins: 1 BLK (in), 2 BLA (in), 3 VOUT (power), 4 RST (in), 5 NIC (in), 6 PSB (in), 7 DB7 (in), 8 BD6 (in), 9 DB5 (in), 10 DB4 (in), 11 DB3 (in), 12 DB2 (in), 13 DB1 (in), 14 DB0 (in), 15 E (in), 16 R/W (io), 17 RS (in), 18 V0 (power), 19 VCC (power), 20 GND (power)

## FID_Bottom
designator FID?, comment FID_BOT
footprint Fiducial_BOT
footprint Fiducial_TOP

## FID_TOP
designator FID?
footprint FID
footprint Fiducial

## Green_LED
designator *  (value not drawn)
footprint LED
pins: 1, 2

## LF411CP
designator U?, comment Op Amp
Operational Amplifier, 1 Func, 2000uV Offset-Max, JFET, PDIP8; Manufacturer: Texas Instruments; Manufacturer Part Number: LF411CP; Manufacturer Lifecycle Status: ACTIVE; Bandwidth: 3MHz; Common Mode Rejection Ratio: 70dB; Dual Supply Voltage: 9V; Input Bias Current: 50pA; Input Offset Voltage (Vos): 800µV; Max Dual Supply Voltage: 18V; Min Dual Supply Voltage: 3.5V; Nominal Supply Current: 2mA; Number of Amplifiers: 1; Slew Rate: 13V/µs; Voltage Gain: 106.02dB; Supplier 1: DigiKey; RoHS: Compliant; Category: Amplifiers - Op Amps, Buffer, Instrumentation; Stock 1: 1651; Pricing 1: 1=1.89, 10=1.392, 50=1.1922, 100=1.1302, 250=1.06472, 500=1.02526, 1000=0.99277, 2500=0.95848, 5000=0.93781 (USD); Ambient Temperature Range High: 70°C; Case/Package: PDIP; Gain Bandwidth Product: 3MHz; Height: 5.08mm; Lead Free: Lead Free; Length: 9.81mm; Lifecycle Status: Production; Max Operating Temperature: 70°C; Max Supply Voltage: 18V; Min Operating Temperature: 0°C; Min Supply Voltage: 3.5V; Mount: Through Hole; Number of Channels: 1; Number of Circuits: 1; Number of Elements: 1; Number of Pins: 8; Operating Supply Current: 2mA; Operating Supply Voltage: 18V; Packaging: Rail/Tube; Radiation Hardening: No; REACH SVHC: No; Schedule B: 8542330000, 8542330000|8542330000|8542330000|8542330000|8542330000; Thickness: 3.9mm; Width: 6.35mm; ComponentLink1URL: https://octopart.com:443/opatz8j6/c1?t=ME9Kw5m9dXWfcXky85tAcHSyYlC8apoAZ8-3gre8b_nSina7puu2hP8TwWnfTs3EPeSjX34nqyTitdSFLs_8QGBgHX6ww4XlTFDgyVNlqbWD734mBrk3_tKI5cnxKlAKfKpGQ4qpv40VtQydaFuTpCPyxMtPIXymfvkq-wgZ2iYYC59fUWRRvOqwP5ghjkfPHXa6W8o3ZhqP265dUXWWeYnFDnAQeTWHD9G2zSMM2k3qVNsbcUXv1JY2EX9HSKcvO5VCVgy-f0kGF7zpLYVPUm_lO1vQG-OiufpRT80XQYLiZAB9fTbyyp6S8sS6LBfEamcry8ZtT7mRzWiBFXFYfVMsnVtz1ltjCeQae7iXIE2CNjtUpcme9pxYmzJIEchvww&src-supplier=Texas+Instruments; ComponentLink1Description: https://octopart.com:443/opatz8j6/c1?t=ME9Kw5m9dXWfcXky85tAcHSyYlC8apoAZ8-3gre8b_nSina7puu2hP8TwWnfTs3EPeSjX34nqyTitdSFLs_8QGBgHX6ww4XlTFDgyVNlqbWD734mBrk3_tKI5cnxKlAKfKpGQ4qpv40VtQydaFuTpCPyxMtPIXymfvkq-wgZ2iYYC59fUWRRvOqwP5ghjkfPHXa6W8o3ZhqP265dUXWWeYnFDnAQeTWHD9G2zSMM2k3qVNsbcUXv1JY2EX9HSKcvO5VCVgy-f0kGF7zpLYVPUm_lO1vQG-OiufpRT80XQYLiZAB9fTbyyp6S8sS6LBfEamcry8ZtT7mRzWiBFXFYfVMsnVtz1ltjCeQae7iXIE2CNjtUpcme9pxYmzJIEchvww&src-supplier=Texas+Instruments; ComponentLink2URL: https://datasheet.octopart.com:443/LF411CP-Texas-Instruments-datasheet-10255057.pdf?src-supplier=Texas+Instruments; ComponentLink2Description: https://datasheet.octopart.com:443/LF411CP-Texas-Instruments-datasheet-10255057.pdf?src-supplier=Texas+Instruments; ComponentLink3URL: https://sigma.octopart.com:443/49250158/technical_drawing/Texas-Instruments-LF411CP.pdf?src-supplier=Texas+Instruments; ComponentLink3Description: https://sigma.octopart.com:443/49250158/technical_drawing/Texas-Instruments-LF411CP.pdf?src-supplier=Texas+Instruments; ComponentLink4URL: https://datasheet.octopart.com:443/LF411CP-Texas-Instruments-datasheet-152016.pdf?src-supplier=Texas+Instruments; ComponentLink4Description: https://datasheet.octopart.com:443/LF411CP-Texas-Instruments-datasheet-152016.pdf?src-supplier=Texas+Instruments; ComponentLink5URL: https://datasheet.octopart.com:443/LF411CP-Texas-Instruments-datasheet-149597787.pdf?src-supplier=Upverter; ComponentLink5Description: https://datasheet.octopart.com:443/LF411CP-Texas-Instruments-datasheet-149597787.pdf?src-supplier=Upverter; ComponentLink6URL: https://datasheet.octopart.com:443/LF411CP-Texas-Instruments-datasheet-33010185.pdf?src-supplier=Newark; ComponentLink6Description: https://datasheet.octopart.com:443/LF411CP-Texas-Instruments-datasheet-33010185.pdf?src-supplier=Newark; ComponentLink7URL: https://datasheet.octopart.com:443/LF411CP-Texas-Instruments-datasheet-29029183.pdf?src-supplier=Newark; ComponentLink7Description: https://datasheet.octopart.com:443/LF411CP-Texas-Instruments-datasheet-29029183.pdf?src-supplier=Newark; ComponentLink8URL: https://datasheet.octopart.com:443/LF411CP-Texas-Instruments-datasheet-17727392.pdf?src-supplier=Newark; ComponentLink8Description: https://datasheet.octopart.com:443/LF411CP-Texas-Instruments-datasheet-17727392.pdf?src-supplier=Newark; ComponentLink9URL: https://datasheet.octopart.com:443/LF411CP-Texas-Instruments-datasheet-20723.pdf?src-supplier=Newark; ComponentLink9Description: https://datasheet.octopart.com:443/LF411CP-Texas-Instruments-datasheet-20723.pdf?src-supplier=Newark; ComponentLink10URL: https://datasheet.octopart.com:443/LF411CP-Texas-Instruments-datasheet-8787176.pdf?src-supplier=Verical; ComponentLink10Description: https://datasheet.octopart.com:443/LF411CP-Texas-Instruments-datasheet-8787176.pdf?src-supplier=Verical; ComponentLink11URL: https://datasheet.octopart.com:443/LF411CP-Texas-Instruments-datasheet-8639286.pdf?src-supplier=element14; ComponentLink11Description: https://datasheet.octopart.com:443/LF411CP-Texas-Instruments-datasheet-8639286.pdf?src-supplier=element14; ComponentLink12URL: https://datasheet.octopart.com:443/LF411CP-Texas-Instruments-datasheet-5316506.pdf?src-supplier=element14; ComponentLink12Description: https://datasheet.octopart.com:443/LF411CP-Texas-Instruments-datasheet-5316506.pdf?src-supplier=element14; ComponentLink13URL: https://datasheet.octopart.com:443/LF411CP-Texas-Instruments-datasheet-166161800.pdf?src-supplier=LCSC; ComponentLink13Description: https://datasheet.octopart.com:443/LF411CP-Texas-Instruments-datasheet-166161800.pdf?src-supplier=LCSC; ComponentLink14URL: https://datasheet.octopart.com:443/LF411CP-Texas-Instruments-datasheet-14138788.pdf?src-supplier=iiiC; ComponentLink14Description: https://datasheet.octopart.com:443/LF411CP-Texas-Instruments-datasheet-14138788.pdf?src-supplier=iiiC; ComponentLink15URL: https://datasheet.octopart.com:443/LF411CP-Texas-Instruments-datasheet-124340.pdf?src-supplier=DigiKey; ComponentLink15Description: https://datasheet.octopart.com:443/LF411CP-Texas-Instruments-datasheet-124340.pdf?src-supplier=DigiKey; ComponentLink16URL: https://datasheet.octopart.com:443/LF411CP-Texas-Instruments-datasheet-114211.pdf?src-supplier=Sierra+IC; ComponentLink16Description: https://datasheet.octopart.com:443/LF411CP-Texas-Instruments-datasheet-114211.pdf?src-supplier=Sierra+IC; ComponentLink17URL: http://sigma.octopart.com:80/reach_statement/Texas-Instruments-company-64.pdf?src-supplier=Compliance+Statements; ComponentLink17Description: http://sigma.octopart.com:80/reach_statement/Texas-Instruments-company-64.pdf?src-supplier=Compliance+Statements; ComponentLink18URL: http://sigma.octopart.com:80/conflict_mineral_statement/Texas-Instruments-company-63.pdf?src-supplier=Compliance+Statements; ComponentLink18Description: http://sigma.octopart.com:80/conflict_mineral_statement/Texas-Instruments-company-63.pdf?src-supplier=Compliance+Statements; Supplier Part Number 1: 296-26079-5-ND
footprint Op Amp
pins: 1 NC, 2 IN- (in), 3 IN+ (in), 4 VCC- (power), 5 NC, 6 OUT (out), 7 VCC+ (power), 8 NC